# EAGLE library part LINEAR_*741 (library ds8)
OP AMP
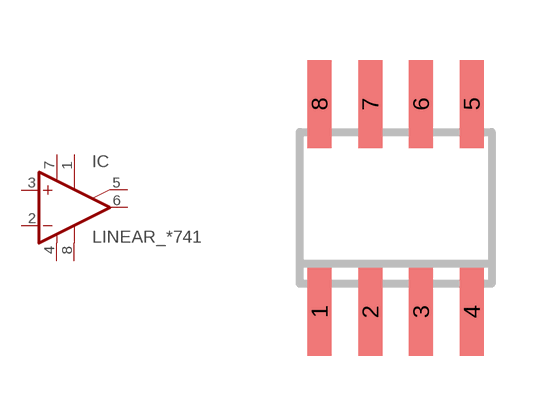
[diagram p1: symbol with the pads of LINEAR_SO08; footprint LINEAR_SO08]

Designator prefix IC

## LINEAR_741D, LINEAR_LM741D, LINEAR_UA741D  [LINEAR_SO08]
1  ON1  pas
2  -IN  in
3  +IN  in
4  V-  pwr
5  ON2  pas
6  OUT  out
7  V+  pwr
8  OPT  pas

## Footprint LINEAR_SO08 (pad centres in mm)
Small Outline Package 8 NS Package M08A
smd 0.6 x 2.2: 1 -1.905,-2.6; 2 -0.635,-2.6; 3 0.635,-2.6; 4 1.905,-2.6; 5 1.905,2.6; 6 0.635,2.6; 7 -0.635,2.6; 8 -1.905,2.6